# Altium schematic symbol library CSS-0575A-SMT-TR.SchLib: 1 symbol
Pins are listed as number, name and electrical type; pins without a type are passive.

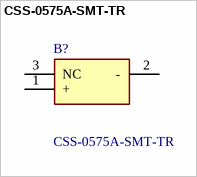
[diagram p0: symbol CSS-0575A-SMT-TR]

## CSS-0575A-SMT-TR
designator B?
5 mm, 3 V, 76 dB, Surface Mount (SMT), Magnetic Audio Transducer Buzzer; Manufacturer_Name: Same Sky; Geometry.Height: 2mm; Mouser Part Number: 490-CSS-0575A-SMT-TR; Mouser Price/Stock: https://www.mouser.co.uk/ProductDetail/CUI-Devices/CSS-0575A-SMT-TR?qs=WyjlAZoYn52WhHVOl0obVQ%3D%3D; Manufacturer_Part_Number: CSS-0575A-SMT-TR; Datasheet Link: https://www.sameskydevices.com/product/resource/css-0575a-smt-tr.pdf
footprint CSS0575ASMTTR
pins: 1 +, 2 -, 3 NC